# EAGLE library part MC34119 (library EE445L)
MC34119 Audio amp http://users.ece.utexas.edu/~valvano/Datasheets/MC34119.pdf The MC34119 is a low power audio amplifier intergrated circuit intended (primarily) for telephone applications, such as in speakerphones. It provides differential speaker outputs to maximize output swing at low supply voltages (2.0 V minimum). Coupling capacitors to the speaker are not required. Open loop gain is 80 dB, and the closed loop gain is set with two external resistors. A Chip Disable pin permits powering down and/or muting the input signal. The MC34119 is available in standard 8–pin DIP, SOIC package, and TSSOP package. • Wide Operating Supply Voltage Range (2.0 V to 16 V), Allows Telephone Line Powered Applications • Low Quiescent Supply Current (2.7 mA Typ) for Battery Powered Applications • Chip Disable Input to Power Down the IC • Low Power–Down Quiescent Current (65 mA Typ) • Drives a Wide Range of Speaker Loads (8.0 W and Up) • Output Power Exceeds 250 mW with 32 W Speaker • Low Total Harmonic Distortion (0.5% Typ) • Gain Adjustable from <0 dB to >46 dB for Voice Band • Requires Few External Components
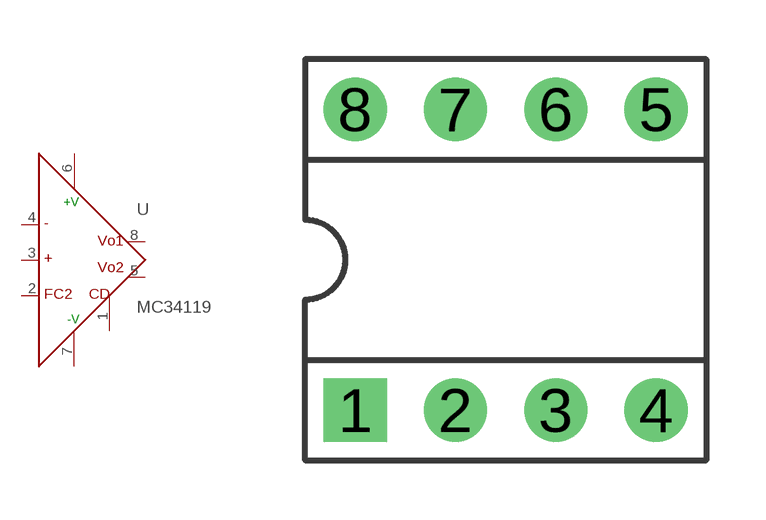
[diagram p29: symbol with the pads of DIL08; footprint DIL08]

Designator prefix U

## MC34119  [DIL08]
1  CD  pas
2  FC2  in
3  FC1  pas
4  VIN  pas
5  VO2  out
6  VCC  pwr
7  GND  pwr
8  VO1  out

## Footprint DIL08 (pad centres in mm)
Dual In Line 0.8mm holes, 2.54mm=100mil spacing
drill 1 pad 1.6 square: 1 -3.81,-3.81
drill 1 pad 1.6: 2 -1.27,-3.81; 3 1.27,-3.81; 4 3.81,-3.81; 5 3.81,3.81; 6 1.27,3.81; 7 -1.27,3.81; 8 -3.81,3.81